# EAGLE library part M74HC123B1R (library ST Microelectronics)
DUAL RETRIGGERABLE MONOSTABLE MULTIVIBRATOR
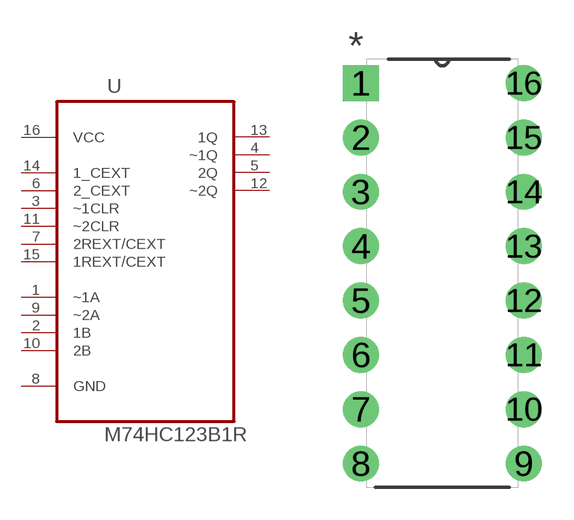
[diagram p214: symbol with the pads of DIP254P762X510-16; footprint DIP254P762X510-16]

Designator prefix U

## M74HC123B1R (MPN: M74HC123B1R; OC_FARNELL: 1094281; OC_NEWARK: 89K0854; PACKAGE: PDIP-16; SUPPLIER: STMICROELECTRONICS)  [DIP254P762X510-16]
1  ~1A  in
2  1B  in
3  ~1CLR  in
4  ~1Q  out
5  2Q  out
6  2_CEXT  pas
7  2REXT/CEXT  pas
8  GND  pas
9  ~2A  in
10  2B  in
11  ~2CLR  in
12  ~2Q  out
13  1Q  out
14  1_CEXT  pas
15  1REXT/CEXT  pas
16  VCC  pwr

## Footprint DIP254P762X510-16 (pad centres in mm)
drill 1.118 square: 1 -7.62,17.78
drill 1.118: 2 -7.62,15.24; 3 -7.62,12.7; 4 -7.62,10.16; 5 -7.62,7.62; 6 -7.62,5.08; 7 -7.62,2.54; 8 -7.62,0; 9 0,0; 10 0,2.54; 11 0,5.08; 12 0,7.62; 13 0,10.16; 14 0,12.7; 15 0,15.24; 16 0,17.78